# Altium footprint library MPW-8.PcbLib: 1 footprints
Each footprint in its own frame and in the unit in brackets; x right, y up, seen from the top. Pads: shape width x height; smd on the part's side, far side on the other; paste and mask are expansions set on the pad; w line width, h text height; cw(c..) or ccw(c..) is an arc to the next point about the centre after c.
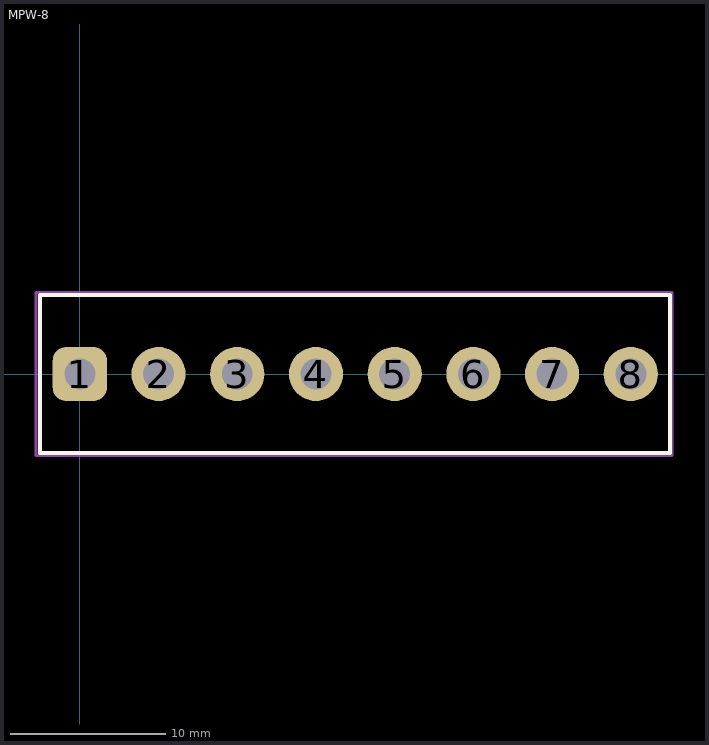
[diagram p0: the footprint, top view; thin cyan lines are the x and y axes]

## MPW-8 [mm]
pads (8):
  rrect50% 3.5x3.5 hole 2: 1(0,0)
  round 3.5 hole 2: 2(5.08,0) 3(10.16,0) 4(15.24,0) 5(20.32,0) 6(25.4,0) 7(30.48,0) 8(35.56,0)
Top Overlay:
  lines w0.254: 17.755,5.095 38.1,5.095 38.1,-5.105 ; 17.78,5.095 -2.565,5.095 -2.565,-5.105 17.755,-5.105 38.075,-5.105
Top Courtyard:
  lines w0.2: -2.715,5.25 17.91,5.25 ; -2.59,5.25 -2.84,5.25 -2.84,-5.25 17.91,-5.25 ; 17.48,-5.25 38.23,-5.25 38.23,5.25 17.605,5.25 ; 17.48,5.25 17.73,5.25
3D body "MPW-4 (DS1074-4 M).STEP": height 14, standoff -3.5, extent -2.554,-4.939 17.766,5.147
3D body "MPW-4 (DS1074-4 M).STEP": height 14, standoff -3.5, extent 17.766,-4.939 38.086,5.147